# Altium footprint library MCP4728.PcbLib: 3 footprints
Each footprint in its own frame and in the unit in brackets; x right, y up, seen from the top. Pads: shape width x height; smd on the part's side, far side on the other; paste and mask are expansions set on the pad; w line width, h text height; cw(c..) or ccw(c..) is an arc to the next point about the centre after c.
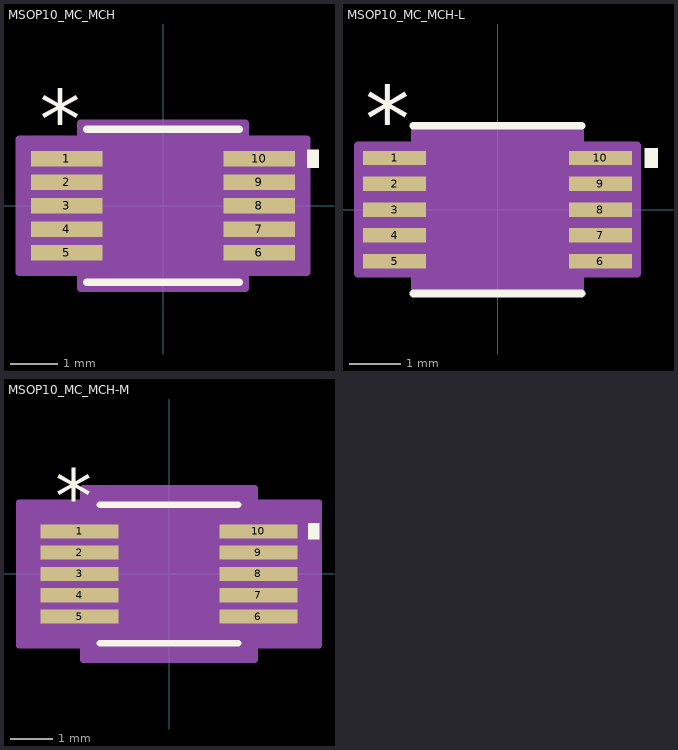
[diagram p0: the footprints below, top view; thin cyan lines are the x and y axes]

## MSOP10_MC_MCH [mil]
pads (10):
  rect 60x13 smd paste+0 mask+0: 1(-80.5,39.37) 2(-80.5,19.68) 3(-80.5,0) 4(-80.5,-19.68) 5(-80.5,-39.37) 6(80.5,-39.37) 7(80.5,-19.68) 8(80.5,0) 9(80.5,19.68) 10(80.5,39.37)
Top Overlay:
  region: 120.5,46.87 130.5,46.87 130.5,31.87 120.5,31.87
  lines w6: -64,-64 64,-64 ; -64,64 64,64
  text ".Designator" at -137.5,-25 h50
  text "*" at -103,47.37 h50
Mechanical 13:
  lines w1: -12,59 ccw(c0,59) 12,59 ; -96.5,-45.87 -96.5,-32.87 -59,-32.87 -59,-45.87 -96.5,-45.87 ; -96.5,-26.18 -96.5,-13.19 -59,-13.19 -59,-26.18 -96.5,-26.18 ; -96.5,-6.5 -96.5,6.5 -59,6.5 -59,-6.5 -96.5,-6.5 ; -96.5,13.19 -96.5,26.18 -59,26.18 -59,13.19 -96.5,13.19 ; -96.5,32.87 -96.5,45.87 -59,45.87 -59,32.87 -96.5,32.87 ; -59,-59 59,-59 59,59 -59,59 -59,-59 ; 59,-45.87 59,-32.87 96.5,-32.87 96.5,-45.87 59,-45.87 ; 59,-26.18 59,-13.19 96.5,-13.19 96.5,-26.18 59,-26.18 ; 59,-6.5 59,6.5 96.5,6.5 96.5,-6.5 59,-6.5 ; 59,13.19 59,26.18 96.5,26.18 96.5,13.19 59,13.19 ; 59,32.87 59,45.87 96.5,45.87 96.5,32.87 59,32.87
  text "*" at -56.5,6 h50
  text ".Designator" at -137.5,-25 h50
Mechanical 15:
  region: -69,-55.87 -120.5,-55.87 -120.5,55.87 -69,55.87 -69,69 69,69 69,55.87 120.5,55.87 120.5,-55.87 69,-55.87 69,-69 -69,-69
  lines w6: -120.5,-55.87 -120.5,55.87 -69,55.87 -69,69 69,69 69,55.87 120.5,55.87 120.5,-55.87 69,-55.87 69,-69 -69,-69 -69,-55.87 -120.5,-55.87
3D body "MSOP10_MC_MCH.step": height 43.11, standoff 0, extent -96.5,-59.02 96.5,59.02

## MSOP10_MC_MCH-L [mil]
pads (10):
  rect 48x11 smd paste+0 mask+0: 1(-78.5,39.37) 2(-78.5,19.68) 3(-78.5,0) 4(-78.5,-19.68) 5(-78.5,-39.37) 6(78.5,-39.37) 7(78.5,-19.68) 8(78.5,0) 9(78.5,19.68) 10(78.5,39.37)
Top Overlay:
  region: 112.5,46.87 122.5,46.87 122.5,31.87 112.5,31.87
  lines w6: -64,-64 64,-64 ; -64,64 64,64
  text ".Designator" at -137.5,-25 h50
  text "*" at -101,45.37 h50
Mechanical 13:
  lines w1: -12,59 ccw(c0,59) 12,59 ; -96.5,-45.87 -96.5,-32.87 -59,-32.87 -59,-45.87 -96.5,-45.87 ; -96.5,-26.18 -96.5,-13.19 -59,-13.19 -59,-26.18 -96.5,-26.18 ; -96.5,-6.5 -96.5,6.5 -59,6.5 -59,-6.5 -96.5,-6.5 ; -96.5,13.19 -96.5,26.18 -59,26.18 -59,13.19 -96.5,13.19 ; -96.5,32.87 -96.5,45.87 -59,45.87 -59,32.87 -96.5,32.87 ; -59,-59 59,-59 59,59 -59,59 -59,-59 ; 59,-45.87 59,-32.87 96.5,-32.87 96.5,-45.87 59,-45.87 ; 59,-26.18 59,-13.19 96.5,-13.19 96.5,-26.18 59,-26.18 ; 59,-6.5 59,6.5 96.5,6.5 96.5,-6.5 59,-6.5 ; 59,13.19 59,26.18 96.5,26.18 96.5,13.19 59,13.19 ; 59,32.87 59,45.87 96.5,45.87 96.5,32.87 59,32.87
  text "*" at -56.5,6 h50
  text ".Designator" at -137.5,-25 h50
Mechanical 15:
  region: -63,-48.87 -106.5,-48.87 -106.5,48.87 -63,48.87 -63,63 63,63 63,48.87 106.5,48.87 106.5,-48.87 63,-48.87 63,-63 -63,-63
  lines w6: -106.5,-48.87 -106.5,48.87 -63,48.87 -63,63 63,63 63,48.87 106.5,48.87 106.5,-48.87 63,-48.87 63,-63 -63,-63 -63,-48.87 -106.5,-48.87
3D body "MSOP10_MC_MCH.step": height 43.11, standoff 0, extent -96.5,-59.02 96.5,59.02

## MSOP10_MC_MCH-M [mil]
pads (10):
  rect 72x13 smd paste+0 mask+0: 1(-82.5,39.37) 2(-82.5,19.68) 3(-82.5,0) 4(-82.5,-19.68) 5(-82.5,-39.37) 6(82.5,-39.37) 7(82.5,-19.68) 8(82.5,0) 9(82.5,19.68) 10(82.5,39.37)
Top Overlay:
  region: 128.5,46.87 138.5,46.87 138.5,31.87 128.5,31.87
  lines w6: -64,-64 64,-64 ; -64,64 64,64
  text ".Designator" at -137.5,-25 h50
  text "*" at -105,47.37 h50
Mechanical 13:
  lines w1: -12,59 ccw(c0,59) 12,59 ; -96.5,-45.87 -96.5,-32.87 -59,-32.87 -59,-45.87 -96.5,-45.87 ; -96.5,-26.18 -96.5,-13.19 -59,-13.19 -59,-26.18 -96.5,-26.18 ; -96.5,-6.5 -96.5,6.5 -59,6.5 -59,-6.5 -96.5,-6.5 ; -96.5,13.19 -96.5,26.18 -59,26.18 -59,13.19 -96.5,13.19 ; -96.5,32.87 -96.5,45.87 -59,45.87 -59,32.87 -96.5,32.87 ; -59,-59 59,-59 59,59 -59,59 -59,-59 ; 59,-45.87 59,-32.87 96.5,-32.87 96.5,-45.87 59,-45.87 ; 59,-26.18 59,-13.19 96.5,-13.19 96.5,-26.18 59,-26.18 ; 59,-6.5 59,6.5 96.5,6.5 96.5,-6.5 59,-6.5 ; 59,13.19 59,26.18 96.5,26.18 96.5,13.19 59,13.19 ; 59,32.87 59,45.87 96.5,45.87 96.5,32.87 59,32.87
  text "*" at -56.5,6 h50
  text ".Designator" at -137.5,-25 h50
Mechanical 15:
  region: -79,-65.87 -138.5,-65.87 -138.5,65.87 -79,65.87 -79,79 79,79 79,65.87 138.5,65.87 138.5,-65.87 79,-65.87 79,-79 -79,-79
  lines w6: -138.5,-65.87 -138.5,65.87 -79,65.87 -79,79 79,79 79,65.87 138.5,65.87 138.5,-65.87 79,-65.87 79,-79 -79,-79 -79,-65.87 -138.5,-65.87
3D body "MSOP10_MC_MCH.step": height 43.11, standoff 0, extent -96.5,-59.02 96.5,59.02